# Altium integrated library TI Data Converters Analog to Digital Converter.IntLib: 2197 symbols (part 49 of 168)
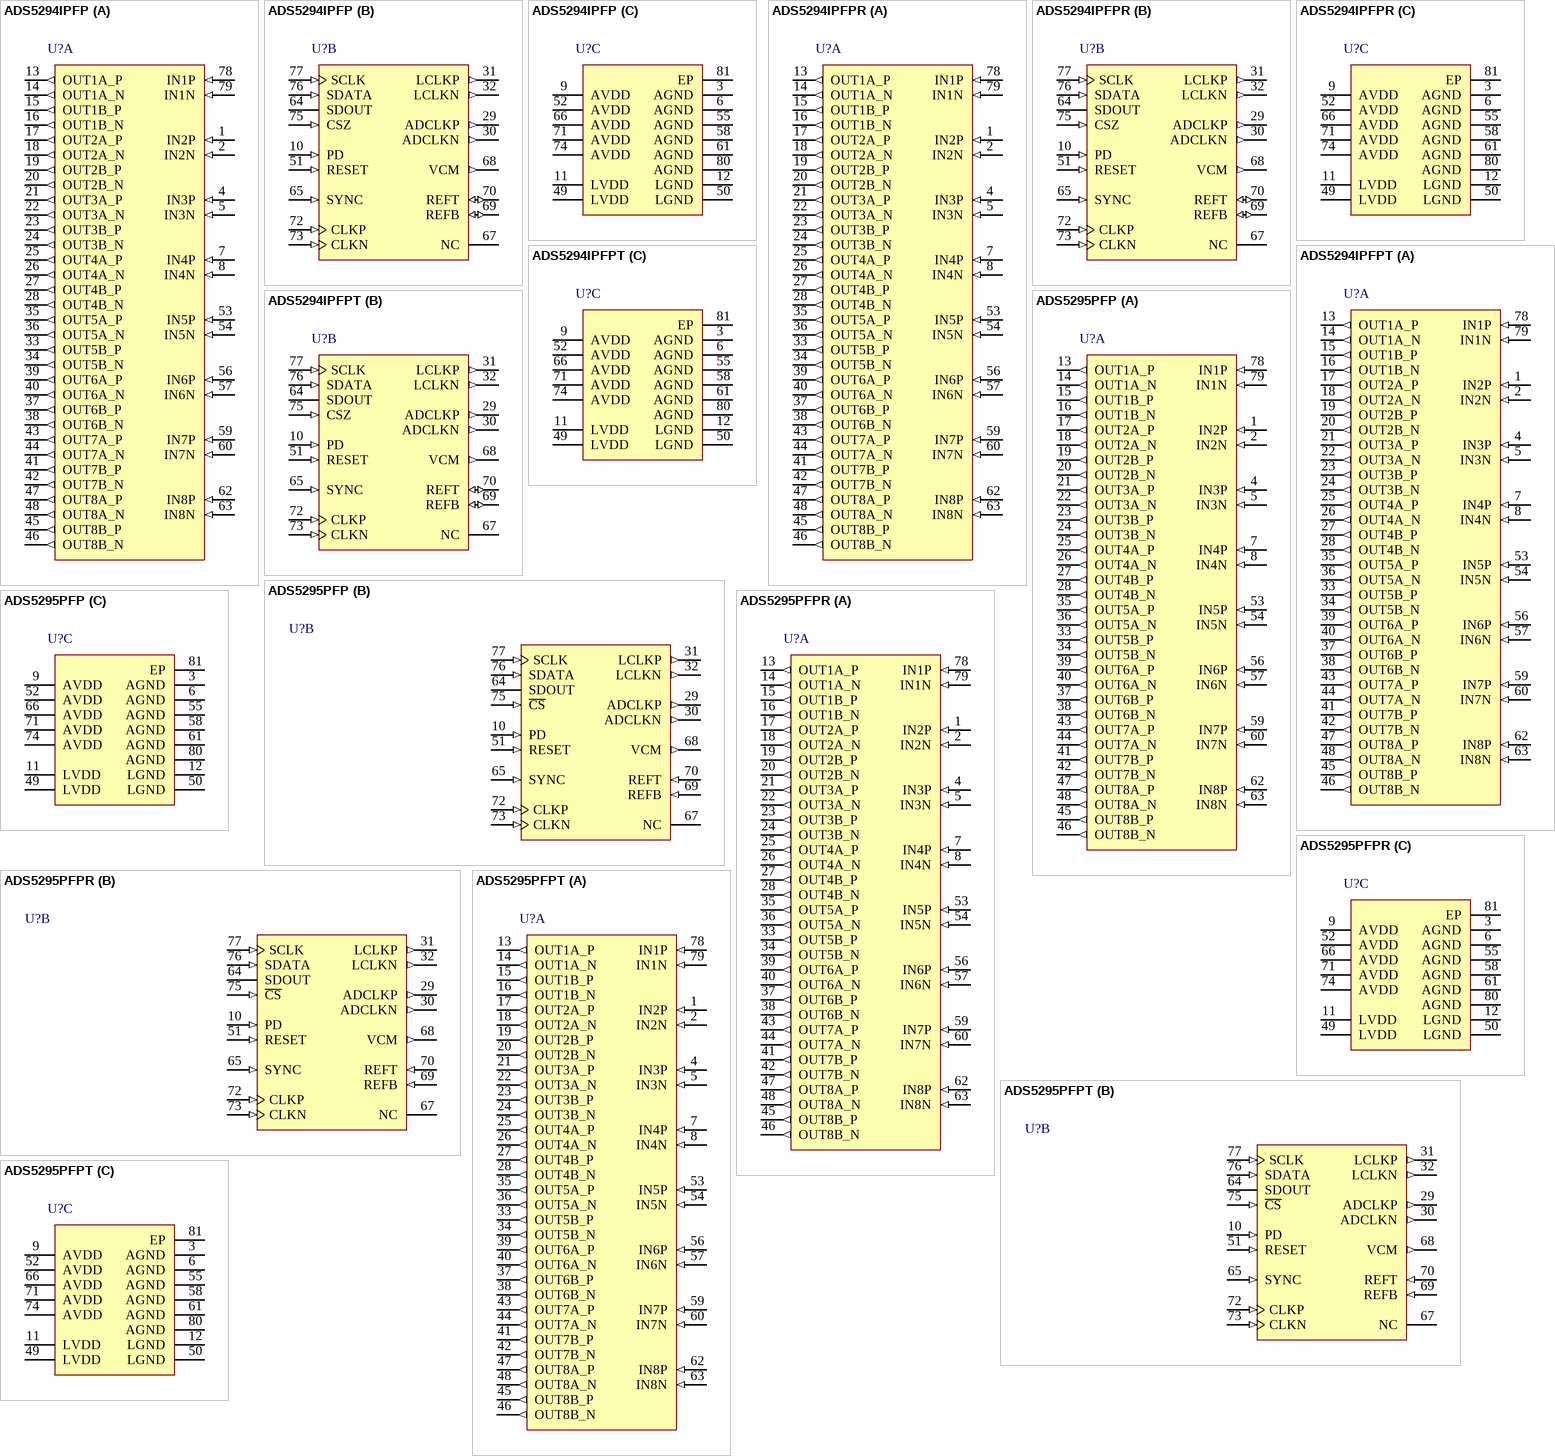
[diagram p174: symbols ADS5294IPFP to ADS5295PFPT]

## ADS5295PFPT
designator U?
Octal Channel 12-Bit, 100 MSPS High-SNR and Low-Power ADC, -40 to 85 degC, 80-pin QFP (PFP80), Green (RoHS & no Sb/Br); Manufacturer: Texas Instruments; PartNumber: ADS5295PFPT; # Input Channels: 8; Analog Voltage AV/DD(Max)(V): 1.9; Analog Voltage AV/DD(Min)(V): 1.7; Architecture: Pipeline; ENOB(Bits): 11.4; INL(Max)(+/-LSB): 1.1; Interface: Serial LVDS; Resolution(Bits): 12; Sample Rate(max)(SPS): 100M; SFDR(dB): 86; SINAD(dB): 70.4; SNR(dB): 70.6; SubFamily: High Speed ADC (>10MSPS); DatasheetVersion: SBAS595; PackageVersion: 4146925/C, 07/2011; PackageReference: PFP80-6825X6825TP; PackageDescription: 80-Pin PowerPAD(TM) Plastic Quad Flatpack, Body 12 x 12 mm, Pitch 0.5 mm; Supplier 1: Digi-Key; Supplier Part Number 1: 296-2822-5-ND; Supplier 2: Mouser; Supplier Part Number 2: 595-THS10064IDA; Digital Supply(Max)(V): 1.9; Digital Supply(Min)(V): 1.7; Eco-Plan: Green (RoHS & no Sb/Br); Mounting Technology: Surface Mount; Code_JEDEC: MS-026; ComponentLink1Description: Manufacturer URL; ComponentLink1URL: http://www.ti.com/; ComponentLink2Description: Datasheet; ComponentLink2URL: http://www.ti.com/lit/ds/symlink/ads5295.pdf; ComponentLink3Description: Package Specification; ComponentLink3URL: http://www.ti.com/litv/pdf/mpqf049b
footprint TI-PFP80-6825X6825TP_N (QFP, 80-Leads, Body 12x12mm, Pitch 0.5mm, Thermal Pad 7.5x7.5mm, IPC Medium Density)
footprint TI-PFP80-6825X6825TP_L (QFP, 80-Leads, Body 12x12mm, Pitch 0.5mm, Thermal Pad 7.5x7.5mm, IPC High Density)
footprint TI-PFP80-6825X6825TP_M (QFP, 80-Leads, Body 12x12mm, Pitch 0.5mm, Thermal Pad 7.5x7.5mm, IPC Low Density)
part A pins: 1 IN2P (in) "Differential analog input for channel 2, positive", 2 IN2N (in) "Differential analog input for channel 2, negative", 4 IN3P (in) "Differential analog input for channel 3, positive", 5 IN3N (in) "Differential analog input for channel 3, negative", 7 IN4P (in) "Differential analog input for channel 4, positive", 8 IN4N (in) "Differential analog input for channel 4, negative", 13 OUT1A_P (out) "Channel 1 differential LVDS positive data output, one-wire", 14 OUT1A_N (out) "Channel 1 differential LVDS negative data output, one-wire", 15 OUT1B_P (out) "Channel 1 differential LVDS positive data output, two-wire", 16 OUT1B_N (out) "Channel 1 differential LVDS negative data output, two-wire", 17 OUT2A_P (out) "Channel 2 differential LVDS positive data output, one-wire", 18 OUT2A_N (out) "Channel 2 differential LVDS negative data output, one-wire", 19 OUT2B_P (out) "Channel 2 differential LVDS positive data output, two-wire", 20 OUT2B_N (out) "Channel 2 differential LVDS negative data output, two-wire", 21 OUT3A_P (out) "Channel 3 differential LVDS positive data output, one-wire", 22 OUT3A_N (out) "Channel 3 differential LVDS negative data output, one-wire", 23 OUT3B_P (out) "Channel 3 differential LVDS positive data output, two-wire", 24 OUT3B_N (out) "Channel 3 differential LVDS negative data output, two-wire", 25 OUT4A_P (out) "Channel 4 differential LVDS positive data output, one-wire", 26 OUT4A_N (out) "Channel 4 differential LVDS negative data output, one-wire", 27 OUT4B_P (out) "Channel 4 differential LVDS positive data output, two-wire", 28 OUT4B_N (out) "Channel 4 differential LVDS negative data output, two-wire", 33 OUT5B_P (out) "Channel 5 differential LVDS positive data output, two-wire", 34 OUT5B_N (out) "Channel 5 differential LVDS negative data output, two-wire", 35 OUT5A_P (out) "Channel 5 differential LVDS positive data output, one-wire", 36 OUT5A_N (out) "Channel 5 differential LVDS negative data output, one-wire", 37 OUT6B_P (out) "Channel 6 differential LVDS positive data output, two-wire", 38 OUT6B_N (out) "Channel 6 differential LVDS negative data output, two-wire", 39 OUT6A_P (out) "Channel 6 differential LVDS positive data output, one-wire", 40 OUT6A_N (out) "Channel 6 differential LVDS negative data output, one-wire", 41 OUT7B_P (out) "Channel 7 differential LVDS positive data output, two-wire", 42 OUT7B_N (out) "Channel 7 differential LVDS negative data output, two-wire", 43 OUT7A_P (out) "Channel 7 differential LVDS positive data output, one-wire", 44 OUT7A_N (out) "Channel 7 differential LVDS negative data output, one-wire", 45 OUT8B_P (out) "Channel 8 differential LVDS positive data output, two-wire", 46 OUT8B_N (out) "Channel 8 differential LVDS negative data output, two-wire", 47 OUT8A_P (out) "Channel 8 differential LVDS positive data output, one-wire", 48 OUT8A_N (out) "Channel 8 differential LVDS negative data output, one-wire", 53 IN5P (in) "Differential analog input for channel 5, positive", 54 IN5N (in) "Differential analog input for channel 5, negative", 56 IN6P (in) "Differential analog input for channel 6, positive", 57 IN6N (in) "Differential analog input for channel 6, negative", 59 IN7P (in) "Differential analog input for channel 7, positive", 60 IN7N (in) "Differential analog input for channel 7, negative", 62 IN8P (in) "Differential analog input for channel 8, positive", 63 IN8N (in) "Differential analog input for channel 8, negative", 78 IN1P (in) "Differential analog input for channel 1, positive", 79 IN1N (in) "Differential analog input for channel 1, negative"
part B pins: 10 PD (in) "Power-down control input pin", 29 ADCLKP (out) "Differential LVDS frame clock (1x), positive", 30 ADCLKN (out) "Differential LVDS frame clock (1x), negative", 31 LCLKP (out) "LVDS differential bit clock output pins (6x), positive", 32 LCLKN (out) "LVDS differential bit clock output pins (6x), negative", 51 RESET (in) "Active high RESET input", 64 SDOUT (hiz) "Serial data output", 65 SYNC (in) "Synchronization input for reduced output data rate", 67 NC "Do not connect", 68 VCM (out) "Common-mode output pin, 0.95-V output", 69 REFB (in) "Negative reference input/output", 70 REFT (in) "Positive reference input/output", 72 CLKP (in) "Differential clock input, positive", 73 CLKN (in) "Differential clock input, negative For a single-ended clock, tie CLKN to 0 V", 75 ~{CS} (in) "Serial enable chip select; active low digital input", 76 SDATA (in) "Serial data input", 77 SCLK (in) "Serial clock input"
part C pins: 3 AGND (power) "Analog ground pin", 6 AGND (power) "Analog ground pin", 9 AVDD (power) "Analog supply pin, 1.8 V", 11 LVDD (power) "Digital and I/O power supply, 1.8 V", 12 LGND (power) "Digital ground pin", 49 LVDD (power) "Digital and I/O power supply, 1.8 V", 50 LGND (power) "Digital ground pin", 52 AVDD (power) "Analog supply pin, 1.8 V", 55 AGND (power) "Analog ground pin", 58 AGND (power) "Analog ground pin", 61 AGND (power) "Analog ground pin", 66 AVDD (power) "Analog supply pin, 1.8 V", 71 AVDD (power) "Analog supply pin, 1.8 V", 74 AVDD (power) "Analog supply pin, 1.8 V", 80 AGND (power) "Analog ground pin", 81 EP (power) "In addition to providing a path for heat dissipation, the pad is also electrically connected to the digital ground internally. Therefore, the exposed pad must be soldered to the ground plane for best thermal and electrical (See Datasheet)"

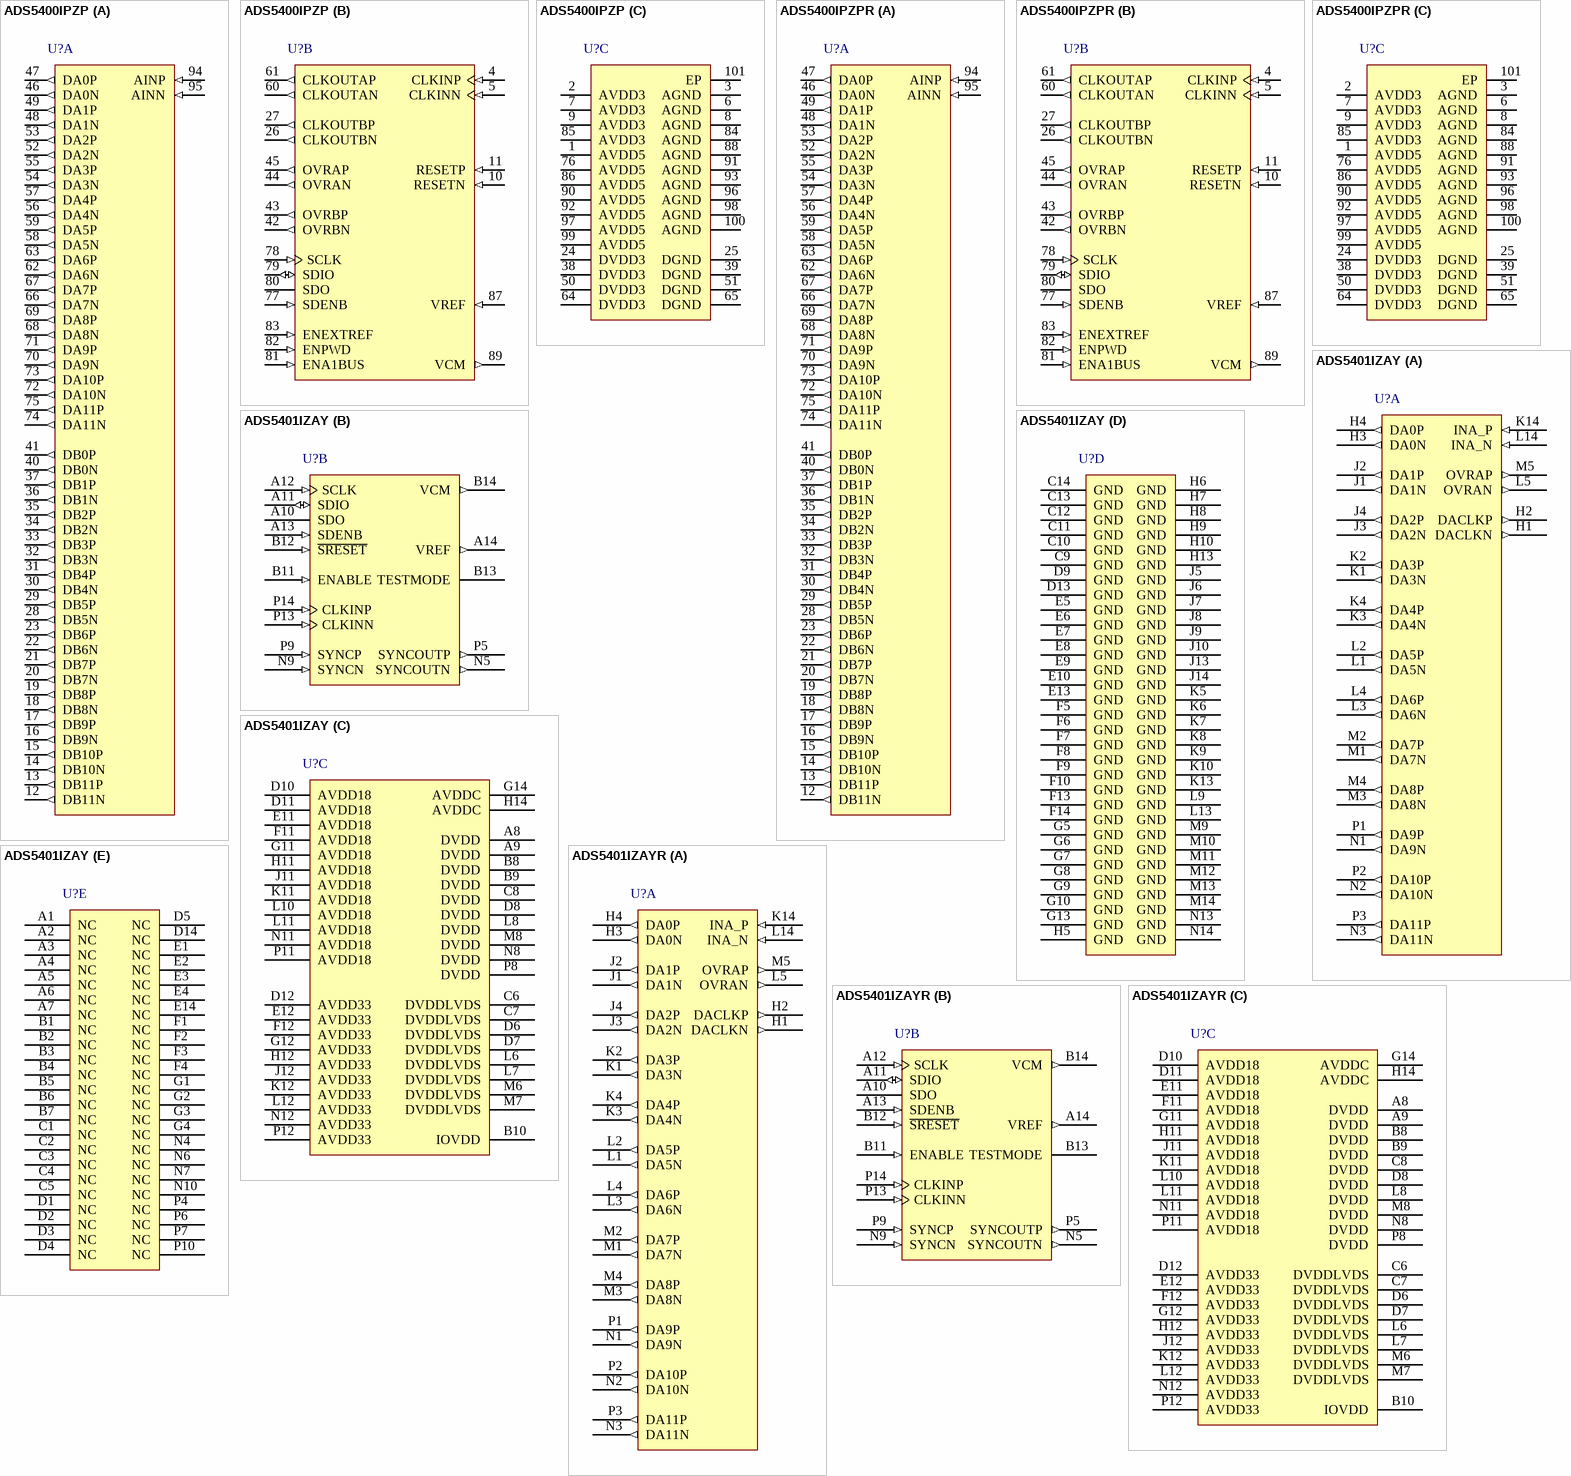
[diagram p45: symbols ADS5400IPZP to ADS5401IZAYR]

## ADS5400IPZP
designator U?
12-Bit, 1000 MSPS ADC with Analog Input Buffer, -40 to 85 degC, 100-pin QFP (PZP100), Green (RoHS & no Sb/Br); Manufacturer: Texas Instruments; PartNumber: ADS5400IPZP; # Input Channels: 1; Analog Voltage AV/DD(Max)(V): 3.465; Analog Voltage AV/DD(Min)(V): 3.135; Architecture: Pipeline; ENOB(Bits): 9.42; INL(Max)(+/-LSB): 4.5; Interface: Parallel LVDS, Serial SPI Interface; Resolution(Bits): 12; Sample Rate (max)(SPS): 1000M; SFDR(dB): 75; SINAD(dB): 58.5; SubFamily: High Speed ADC (>10MSPS); DatasheetVersion: SLAS611B; PackageVersion: 4146929/C, 09/2011; PackageReference: PZP100-5340X5340TP; PackageDescription: 100-Pin PowerPAD(TM) Plastic Quad Flatpack, Body 14 x 14 mm, Pitch 0.5 mm; Supplier 1: Digi-Key; Supplier Part Number 1: THS10064IDAG4-ND; Supplier 2: Mouser; Supplier Part Number 2: 595-THS10064IDAG4; Digital Supply(Max)(V): 3.465; Digital Supply(Min)(V): 3.135; Eco-Plan: Green (RoHS & no Sb/Br); SNR(dB): 58.5; Mounting Technology: Surface Mount; Code_JEDEC: MS-026; ComponentLink1Description: Manufacturer URL; ComponentLink1URL: http://www.ti.com/; ComponentLink2Description: Datasheet; ComponentLink2URL: http://www.ti.com/general/docs/lit/getliterature.tsp?genericPartNumber=ADS5400&fileType=pdf; ComponentLink3Description: Package Specification; ComponentLink3URL: http://www.ti.com/litv/pdf/mpqf053b
footprint TI-PZP100-5340X5340TP_N (QFP, 100-Leads, Body 14x14mm, Pitch 0.5mm, Thermal Pad 6 x 6 mm, IPC Medium Density)
footprint TI-PZP100-5340X5340TP_L (QFP, 100-Leads, Body 14x14mm, Pitch 0.5mm, Thermal Pad 6 x 6 mm, IPC High Density)
footprint TI-PZP100-5340X5340TP_M (QFP, 100-Leads, Body 14x14mm, Pitch 0.5mm, Thermal Pad 6 x 6 mm, IPC Low Density)
part A pins: 12 DB11N (out) "Bus B, LVDS digital output pair, most-significant bit (MSB)", 13 DB11P (out) "Bus B, LVDS digital output pair, most-significant bit (MSB)", 14 DB10N (out) "Bus B, LVDS digital output pairs (bits 1- 10)", 15 DB10P (out) "Bus B, LVDS digital output pairs (bits 1- 10)", 16 DB9N (out) "Bus B, LVDS digital output pairs (bits 1- 10)", 17 DB9P (out) "Bus B, LVDS digital output pairs (bits 1- 10)", 18 DB8N (out) "Bus B, LVDS digital output pairs (bits 1- 10)", 19 DB8P (out) "Bus B, LVDS digital output pairs (bits 1- 10)", 20 DB7N (out) "Bus B, LVDS digital output pairs (bits 1- 10)", 21 DB7P (out) "Bus B, LVDS digital output pairs (bits 1- 10)", 22 DB6N (out) "Bus B, LVDS digital output pairs (bits 1- 10)", 23 DB6P (out) "Bus B, LVDS digital output pairs (bits 1- 10)", 28 DB5N (out) "Bus B, LVDS digital output pairs (bits 1- 10)", 29 DB5P (out) "Bus B, LVDS digital output pairs (bits 1- 10)", 30 DB4N (out) "Bus B, LVDS digital output pairs (bits 1- 10)", 31 DB4P (out) "Bus B, LVDS digital output pairs (bits 1- 10)", 32 DB3N (out) "Bus B, LVDS digital output pairs (bits 1- 10)", 33 DB3P (out) "Bus B, LVDS digital output pairs (bits 1- 10)", 34 DB2N (out) "Bus B, LVDS digital output pairs (bits 1- 10)", 35 DB2P (out) "Bus B, LVDS digital output pairs (bits 1- 10)", 36 DB1N (out) "Bus B, LVDS digital output pairs (bits 1- 10)", 37 DB1P (out) "Bus B, LVDS digital output pairs (bits 1- 10)", 40 DB0N (out) "Bus B, LVDS digital output pair, least-significant bit (LSB) (P = positive output, N = negative output)", 41 DB0P (out) "Bus B, LVDS digital output pair, least-significant bit (LSB) (P = positive output, N = negative output)", 46 DA0N (out) "Bus A, LVDS digital output pair, least-significant bit (LSB) (P = positive output, N = negative output)", 47 DA0P (out) "Bus A, LVDS digital output pair, least-significant bit (LSB) (P = positive output, N = negative output)", 48 DA1N (out) "Bus A, LVDS digital output pairs (bits 1- 10)", 49 DA1P (out) "Bus A, LVDS digital output pairs (bits 1- 10)", 52 DA2N (out) "Bus A, LVDS digital output pairs (bits 1- 10)", 53 DA2P (out) "Bus A, LVDS digital output pairs (bits 1- 10)", 54 DA3N (out) "Bus A, LVDS digital output pairs (bits 1- 10)", 55 DA3P (out) "Bus A, LVDS digital output pairs (bits 1- 10)", 56 DA4N (out) "Bus A, LVDS digital output pairs (bits 1- 10)", 57 DA4P (out) "Bus A, LVDS digital output pairs (bits 1- 10)", 58 DA5N (out) "Bus A, LVDS digital output pairs (bits 1- 10)", 59 DA5P (out) "Bus A, LVDS digital output pairs (bits 1- 10)", 62 DA6N (out) "Bus A, LVDS digital output pairs (bits 1- 10)", 63 DA6P (out) "Bus A, LVDS digital output pairs (bits 1- 10)", 66 DA7N (out) "Bus A, LVDS digital output pairs (bits 1- 10)", 67 DA7P (out) "Bus A, LVDS digital output pairs (bits 1- 10)", 68 DA8N (out) "Bus A, LVDS digital output pairs (bits 1- 10)", 69 DA8P (out) "Bus A, LVDS digital output pairs (bits 1- 10)", 70 DA9N (out) "Bus A, LVDS digital output pairs (bits 1- 10)", 71 DA9P (out) "Bus A, LVDS digital output pairs (bits 1- 10)", 72 DA10N (out) "Bus A, LVDS digital output pairs (bits 1- 10)", 73 DA10P (out) "Bus A, LVDS digital output pairs (bits 1- 10)", 74 DA11N (out) "Bus A, LVDS digital output pair, most-significant bit (MSB)", 75 DA11P (out) "Bus A, LVDS digital output pair, most-significant bit (MSB)", 94 AINP (in) "Analog differential input signal (positive, negative). Includes 100-ohm differential load on-chip.", 95 AINN (in) "Analog differential input signal (positive, negative). Includes 100-ohm differential load on-chip."
part B pins: 4 CLKINP (in) "Differential input clock (positive, negative). Includes 160-ohm differential load on-chip.", 5 CLKINN (in) "Differential input clock (positive, negative). Includes 160-ohm differential load on-chip.", 10 RESETN (in) "Digital Reset Input, LVDS input pair. Inactive if logic low. When clocked in a high state, this is used for resetting the polarity of CLKOUT signal pair(s). If SYNC mode is enabled in register 0x05, this input also provides (See Datasheet)", 11 RESETP (in) "Digital Reset Input, LVDS input pair. Inactive if logic low. When clocked in a high state, this is used for resetting the polarity of CLKOUT signal pair(s). If SYNC mode is enabled in register 0x05, this input also provides (See Datasheet)", 26 CLKOUTBN (out) "Bus B, Clock Output (Data ready), LVDS output pair", 27 CLKOUTBP (out) "Bus B, Clock Output (Data ready), LVDS output pair", 42 OVRBN (out) "Bus B, Overrange indicator LVDS output. A logic high signals an analog input in excess of the full-scale range. Becomes SYNCOUTB when SYNC mode is enabled in register 0x05.", 43 OVRBP (out) "Bus B, Overrange indicator LVDS output. A logic high signals an analog input in excess of the full-scale range. Becomes SYNCOUTB when SYNC mode is enabled in register 0x05.", 44 OVRAN (out) "Bus A, Overrange indicator LVDS output. A logic high signals an analog input in excess of the full-scale range. Becomes SYNCOUTA when SYNC mode is enabled in register 0x05.", 45 OVRAP (out) "Bus A, Overrange indicator LVDS output. A logic high signals an analog input in excess of the full-scale range. Becomes SYNCOUTA when SYNC mode is enabled in register 0x05.", 60 CLKOUTAN (out) "Bus A, Clock Output (Data ready), LVDS output pair", 61 CLKOUTAP (out) "Bus A, Clock Output (Data ready), LVDS output pair", 77 SDENB (in) "Active low serial data enable, always an input. Use to enable the serial interface. Internal 100kohm pull-up resistor.", 78 SCLK (in) "Serial interface clock.", 79 SDIO (io) "Bi-directional serial interface data in 3-pin mode (default) for programming/reading internal registers. In 4-pin interface mode (reg 0x01), the SDIO pin is an input only.", 80 SDO (hiz) "Uni-directional serial interface data in 4-pin mode (reg 0x01) provides internal register settings. The SDO pin is in high-impedance state in 3-pin interface mode (default).", 81 ENA1BUS (in) "Enable single output bus mode (2-bus mode is default), active high. This pin is logic OR'd with addr 0x02h bit<0>.", 82 ENPWD (in) "Enable Powerdown, active high. Places the converter into power-saving sleep mode when high. This pin is logic OR'd with addr 0x05h bit<6>.", 83 ENEXTREF (in) "Enable External Reference Mode, active high. Device uses an external voltage reference when high. This pin is logic OR'd with addr 0x05h bit<2>.", 87 VREF (in) "Reference voltage input (2V nominal). A 0.1mF capacitor to AGND is recommended, but not required.", 89 VCM (out) "Analog input common mode voltage, Output (for DC-coupled applications, nominally 2.5V). A 0.1mF capacitor to AGND is recommended, but not required."
part C pins: 1 AVDD5 (power) "Analog power supply (5 V)", 2 AVDD3 (power) "Analog power supply (3.3 V)", 3 AGND (power) "Analog Ground", 6 AGND (power) "Analog Ground", 7 AVDD3 (power) "Analog power supply (3.3 V)", 8 AGND (power) "Analog Ground", 9 AVDD3 (power) "Analog power supply (3.3 V)", 24 DVDD3 (power) "Output driver power supply (3.3 V)", 25 DGND (power) "Digital Ground", 38 DVDD3 (power) "Output driver power supply (3.3 V)", 39 DGND (power) "Digital Ground", 50 DVDD3 (power) "Output driver power supply (3.3 V)", 51 DGND (power) "Digital Ground", 64 DVDD3 (power) "Output driver power supply (3.3 V)", 65 DGND (power) "Digital Ground", 76 AVDD5 (power) "Analog power supply (5 V)", 84 AGND (power) "Analog Ground", 85 AVDD3 (power) "Analog power supply (3.3 V)", 86 AVDD5 (power) "Analog power supply (5 V)", 88 AGND (power) "Analog Ground", 90 AVDD5 (power) "Analog power supply (5 V)", 91 AGND (power) "Analog Ground", 92 AVDD5 (power) "Analog power supply (5 V)", 93 AGND (power) "Analog Ground", 96 AGND (power) "Analog Ground", 97 AVDD5 (power) "Analog power supply (5 V)", 98 AGND (power) "Analog Ground", 99 AVDD5 (power) "Analog power supply (5 V)", 100 AGND (power) "Analog Ground", 101 EP (power) "Thermal Pad = AGND"

## ADS5400IPZPR
designator U?
12-Bit, 1000 MSPS ADC with Analog Input Buffer, -40 to 85 degC, 100-pin QFP (PZP100), Green (RoHS & no Sb/Br); Manufacturer: Texas Instruments; PartNumber: ADS5400IPZPR; # Input Channels: 1; Analog Voltage AV/DD(Max)(V): 3.465; Analog Voltage AV/DD(Min)(V): 3.135; Architecture: Pipeline; ENOB(Bits): 9.42; INL(Max)(+/-LSB): 4.5; Interface: Parallel LVDS, Serial SPI Interface; Resolution(Bits): 12; Sample Rate (max)(SPS): 1000M; SFDR(dB): 75; SINAD(dB): 58.5; SubFamily: High Speed ADC (>10MSPS); DatasheetVersion: SLAS611B; PackageVersion: 4146929/C, 09/2011; PackageReference: PZP100-5340X5340TP; PackageDescription: 100-Pin PowerPAD(TM) Plastic Quad Flatpack, Body 14 x 14 mm, Pitch 0.5 mm; Supplier 1: Digi-Key; Supplier Part Number 1: 296-2176-5-ND; Supplier 2: Newark; Supplier Part Number 2: 19C8969; Supplier 3: Mouser; Supplier Part Number 3: 595-THS1206CDA; Digital Supply(Max)(V): 3.465; Digital Supply(Min)(V): 3.135; Eco-Plan: Green (RoHS & no Sb/Br); SNR(dB): 58.5; Mounting Technology: Surface Mount; Code_JEDEC: MS-026; ComponentLink1Description: Manufacturer URL; ComponentLink1URL: http://www.ti.com/; ComponentLink2Description: Datasheet; ComponentLink2URL: http://www.ti.com/general/docs/lit/getliterature.tsp?genericPartNumber=ADS5400&fileType=pdf; ComponentLink3Description: Package Specification; ComponentLink3URL: http://www.ti.com/litv/pdf/mpqf053b
footprint TI-PZP100-5340X5340TP_N (QFP, 100-Leads, Body 14x14mm, Pitch 0.5mm, Thermal Pad 6 x 6 mm, IPC Medium Density)
footprint TI-PZP100-5340X5340TP_L (QFP, 100-Leads, Body 14x14mm, Pitch 0.5mm, Thermal Pad 6 x 6 mm, IPC High Density)
footprint TI-PZP100-5340X5340TP_M (QFP, 100-Leads, Body 14x14mm, Pitch 0.5mm, Thermal Pad 6 x 6 mm, IPC Low Density)
part A pins: 12 DB11N (out) "Bus B, LVDS digital output pair, most-significant bit (MSB)", 13 DB11P (out) "Bus B, LVDS digital output pair, most-significant bit (MSB)", 14 DB10N (out) "Bus B, LVDS digital output pairs (bits 1- 10)", 15 DB10P (out) "Bus B, LVDS digital output pairs (bits 1- 10)", 16 DB9N (out) "Bus B, LVDS digital output pairs (bits 1- 10)", 17 DB9P (out) "Bus B, LVDS digital output pairs (bits 1- 10)", 18 DB8N (out) "Bus B, LVDS digital output pairs (bits 1- 10)", 19 DB8P (out) "Bus B, LVDS digital output pairs (bits 1- 10)", 20 DB7N (out) "Bus B, LVDS digital output pairs (bits 1- 10)", 21 DB7P (out) "Bus B, LVDS digital output pairs (bits 1- 10)", 22 DB6N (out) "Bus B, LVDS digital output pairs (bits 1- 10)", 23 DB6P (out) "Bus B, LVDS digital output pairs (bits 1- 10)", 28 DB5N (out) "Bus B, LVDS digital output pairs (bits 1- 10)", 29 DB5P (out) "Bus B, LVDS digital output pairs (bits 1- 10)", 30 DB4N (out) "Bus B, LVDS digital output pairs (bits 1- 10)", 31 DB4P (out) "Bus B, LVDS digital output pairs (bits 1- 10)", 32 DB3N (out) "Bus B, LVDS digital output pairs (bits 1- 10)", 33 DB3P (out) "Bus B, LVDS digital output pairs (bits 1- 10)", 34 DB2N (out) "Bus B, LVDS digital output pairs (bits 1- 10)", 35 DB2P (out) "Bus B, LVDS digital output pairs (bits 1- 10)", 36 DB1N (out) "Bus B, LVDS digital output pairs (bits 1- 10)", 37 DB1P (out) "Bus B, LVDS digital output pairs (bits 1- 10)", 40 DB0N (out) "Bus B, LVDS digital output pair, least-significant bit (LSB) (P = positive output, N = negative output)", 41 DB0P (out) "Bus B, LVDS digital output pair, least-significant bit (LSB) (P = positive output, N = negative output)", 46 DA0N (out) "Bus A, LVDS digital output pair, least-significant bit (LSB) (P = positive output, N = negative output)", 47 DA0P (out) "Bus A, LVDS digital output pair, least-significant bit (LSB) (P = positive output, N = negative output)", 48 DA1N (out) "Bus A, LVDS digital output pairs (bits 1- 10)", 49 DA1P (out) "Bus A, LVDS digital output pairs (bits 1- 10)", 52 DA2N (out) "Bus A, LVDS digital output pairs (bits 1- 10)", 53 DA2P (out) "Bus A, LVDS digital output pairs (bits 1- 10)", 54 DA3N (out) "Bus A, LVDS digital output pairs (bits 1- 10)", 55 DA3P (out) "Bus A, LVDS digital output pairs (bits 1- 10)", 56 DA4N (out) "Bus A, LVDS digital output pairs (bits 1- 10)", 57 DA4P (out) "Bus A, LVDS digital output pairs (bits 1- 10)", 58 DA5N (out) "Bus A, LVDS digital output pairs (bits 1- 10)", 59 DA5P (out) "Bus A, LVDS digital output pairs (bits 1- 10)", 62 DA6N (out) "Bus A, LVDS digital output pairs (bits 1- 10)", 63 DA6P (out) "Bus A, LVDS digital output pairs (bits 1- 10)", 66 DA7N (out) "Bus A, LVDS digital output pairs (bits 1- 10)", 67 DA7P (out) "Bus A, LVDS digital output pairs (bits 1- 10)", 68 DA8N (out) "Bus A, LVDS digital output pairs (bits 1- 10)", 69 DA8P (out) "Bus A, LVDS digital output pairs (bits 1- 10)", 70 DA9N (out) "Bus A, LVDS digital output pairs (bits 1- 10)", 71 DA9P (out) "Bus A, LVDS digital output pairs (bits 1- 10)", 72 DA10N (out) "Bus A, LVDS digital output pairs (bits 1- 10)", 73 DA10P (out) "Bus A, LVDS digital output pairs (bits 1- 10)", 74 DA11N (out) "Bus A, LVDS digital output pair, most-significant bit (MSB)", 75 DA11P (out) "Bus A, LVDS digital output pair, most-significant bit (MSB)", 94 AINP (in) "Analog differential input signal (positive, negative). Includes 100-ohm differential load on-chip.", 95 AINN (in) "Analog differential input signal (positive, negative). Includes 100-ohm differential load on-chip."
part B pins: 4 CLKINP (in) "Differential input clock (positive, negative). Includes 160-ohm differential load on-chip.", 5 CLKINN (in) "Differential input clock (positive, negative). Includes 160-ohm differential load on-chip.", 10 RESETN (in) "Digital Reset Input, LVDS input pair. Inactive if logic low. When clocked in a high state, this is used for resetting the polarity of CLKOUT signal pair(s). If SYNC mode is enabled in register 0x05, this input also provides (See Datasheet)", 11 RESETP (in) "Digital Reset Input, LVDS input pair. Inactive if logic low. When clocked in a high state, this is used for resetting the polarity of CLKOUT signal pair(s). If SYNC mode is enabled in register 0x05, this input also provides (See Datasheet)", 26 CLKOUTBN (out) "Bus B, Clock Output (Data ready), LVDS output pair", 27 CLKOUTBP (out) "Bus B, Clock Output (Data ready), LVDS output pair", 42 OVRBN (out) "Bus B, Overrange indicator LVDS output. A logic high signals an analog input in excess of the full-scale range. Becomes SYNCOUTB when SYNC mode is enabled in register 0x05.", 43 OVRBP (out) "Bus B, Overrange indicator LVDS output. A logic high signals an analog input in excess of the full-scale range. Becomes SYNCOUTB when SYNC mode is enabled in register 0x05.", 44 OVRAN (out) "Bus A, Overrange indicator LVDS output. A logic high signals an analog input in excess of the full-scale range. Becomes SYNCOUTA when SYNC mode is enabled in register 0x05.", 45 OVRAP (out) "Bus A, Overrange indicator LVDS output. A logic high signals an analog input in excess of the full-scale range. Becomes SYNCOUTA when SYNC mode is enabled in register 0x05.", 60 CLKOUTAN (out) "Bus A, Clock Output (Data ready), LVDS output pair", 61 CLKOUTAP (out) "Bus A, Clock Output (Data ready), LVDS output pair", 77 SDENB (in) "Active low serial data enable, always an input. Use to enable the serial interface. Internal 100kohm pull-up resistor.", 78 SCLK (in) "Serial interface clock.", 79 SDIO (io) "Bi-directional serial interface data in 3-pin mode (default) for programming/reading internal registers. In 4-pin interface mode (reg 0x01), the SDIO pin is an input only.", 80 SDO (hiz) "Uni-directional serial interface data in 4-pin mode (reg 0x01) provides internal register settings. The SDO pin is in high-impedance state in 3-pin interface mode (default).", 81 ENA1BUS (in) "Enable single output bus mode (2-bus mode is default), active high. This pin is logic OR'd with addr 0x02h bit<0>.", 82 ENPWD (in) "Enable Powerdown, active high. Places the converter into power-saving sleep mode when high. This pin is logic OR'd with addr 0x05h bit<6>.", 83 ENEXTREF (in) "Enable External Reference Mode, active high. Device uses an external voltage reference when high. This pin is logic OR'd with addr 0x05h bit<2>.", 87 VREF (in) "Reference voltage input (2V nominal). A 0.1mF capacitor to AGND is recommended, but not required.", 89 VCM (out) "Analog input common mode voltage, Output (for DC-coupled applications, nominally 2.5V). A 0.1mF capacitor to AGND is recommended, but not required."
part C pins: 1 AVDD5 (power) "Analog power supply (5 V)", 2 AVDD3 (power) "Analog power supply (3.3 V)", 3 AGND (power) "Analog Ground", 6 AGND (power) "Analog Ground", 7 AVDD3 (power) "Analog power supply (3.3 V)", 8 AGND (power) "Analog Ground", 9 AVDD3 (power) "Analog power supply (3.3 V)", 24 DVDD3 (power) "Output driver power supply (3.3 V)", 25 DGND (power) "Digital Ground", 38 DVDD3 (power) "Output driver power supply (3.3 V)", 39 DGND (power) "Digital Ground", 50 DVDD3 (power) "Output driver power supply (3.3 V)", 51 DGND (power) "Digital Ground", 64 DVDD3 (power) "Output driver power supply (3.3 V)", 65 DGND (power) "Digital Ground", 76 AVDD5 (power) "Analog power supply (5 V)", 84 AGND (power) "Analog Ground", 85 AVDD3 (power) "Analog power supply (3.3 V)", 86 AVDD5 (power) "Analog power supply (5 V)", 88 AGND (power) "Analog Ground", 90 AVDD5 (power) "Analog power supply (5 V)", 91 AGND (power) "Analog Ground", 92 AVDD5 (power) "Analog power supply (5 V)", 93 AGND (power) "Analog Ground", 96 AGND (power) "Analog Ground", 97 AVDD5 (power) "Analog power supply (5 V)", 98 AGND (power) "Analog Ground", 99 AVDD5 (power) "Analog power supply (5 V)", 100 AGND (power) "Analog Ground", 101 EP (power) "Thermal Pad = AGND"

## ADS5401IZAY
designator U?
Single 12-Bit 800 MSPS ADC, -40 to 85 degC, 196-pin BGA (ZAY196), Green (RoHS & no Sb/Br); Manufacturer: Texas Instruments; PartNumber: ADS5401IZAY; # Input Channels: 1; Analog Voltage AV/DD(Max)(V): 3.45; Analog Voltage AV/DD(Min)(V): 3.15; Architecture: Pipeline; Digital Supply(Max)(V): 1.9; Digital Supply(Min)(V): 1.7; ENOB(Bits): 9.8; INL(Max)(+/-LSB): 5; Interface: DDR LVDS; Resolution(Bits): 12; Sample Rate(max)(SPS): 800M; SFDR(dB): 78; SINAD(dB): 61; SNR(dB): 61.3; SubFamily: High Speed ADC (>10MSPS); DatasheetVersion: SLAS946; PackageVersion: 4208324-4/C, 09/2010; PackageReference: ZAY196; PackageDescription: 196-Pin Plastic Ball Grid Array, Body 12 x 12 mm, Pitch 0.8 mm; Supplier 1: Digi-Key; Supplier Part Number 1: THS1206CDAG4-ND; Supplier 2: Newark; Supplier Part Number 2: 43K9709; Supplier 3: Mouser; Supplier Part Number 3: 595-THS1206CDAG4; Eco-Plan: Green (RoHS & no Sb/Br); Mounting Technology: Surface Mount; ComponentLink1Description: Manufacturer URL; ComponentLink1URL: http://www.ti.com/; ComponentLink2Description: Datasheet; ComponentLink2URL: http://www.ti.com/lit/ds/symlink/ads5401.pdf; ComponentLink3Description: Package Specification; ComponentLink3URL: http://www.ti.com/litv/pdf/mpbga11
footprint TI-ZAY196 (BGA, 196-Balls, Body 12x12mm, Pitch 0.8mm)
part A pins: H1 DACLKN (out) "DDR differential output data clock for Bus A. Register programmable to provide either rising or falling edge to center of stable data nominal timing.", H2 DACLKP (out) "DDR differential output data clock for Bus A. Register programmable to provide either rising or falling edge to center of stable data nominal timing.", H3 DA0N (out) "ADC A Data Bits 11 (MSB) to 0 (LSB) in DDR output mode. Standard LVDS output.", H4 DA0P (out) "ADC A Data Bits 11 (MSB) to 0 (LSB) in DDR output mode. Standard LVDS output.", J1 DA1N (out) "ADC A Data Bits 11 (MSB) to 0 (LSB) in DDR output mode. Standard LVDS output.", J2 DA1P (out) "ADC A Data Bits 11 (MSB) to 0 (LSB) in DDR output mode. Standard LVDS output.", J3 DA2N (out) "ADC A Data Bits 11 (MSB) to 0 (LSB) in DDR output mode. Standard LVDS output.", J4 DA2P (out) "ADC A Data Bits 11 (MSB) to 0 (LSB) in DDR output mode. Standard LVDS output.", K1 DA3N (out) "ADC A Data Bits 11 (MSB) to 0 (LSB) in DDR output mode. Standard LVDS output.", K2 DA3P (out) "ADC A Data Bits 11 (MSB) to 0 (LSB) in DDR output mode. Standard LVDS output.", K3 DA4N (out) "ADC A Data Bits 11 (MSB) to 0 (LSB) in DDR output mode. Standard LVDS output.", K4 DA4P (out) "ADC A Data Bits 11 (MSB) to 0 (LSB) in DDR output mode. Standard LVDS output.", K14 INA_P (in) "Analog ADC A differential input signal.", L1 DA5N (out) "ADC A Data Bits 11 (MSB) to 0 (LSB) in DDR output mode. Standard LVDS output.", L2 DA5P (out) "ADC A Data Bits 11 (MSB) to 0 (LSB) in DDR output mode. Standard LVDS output.", L3 DA6N (out) "ADC A Data Bits 11 (MSB) to 0 (LSB) in DDR output mode. Standard LVDS output.", L4 DA6P (out) "ADC A Data Bits 11 (MSB) to 0 (LSB) in DDR output mode. Standard LVDS output.", L5 OVRAN (out) "Bus A, Overrange indicator, LVDS output. A logic high signals an analog input in excess of the full-scale range. Optional SYNC output.", L14 INA_N (in) "Analog ADC A differential input signal.", M1 DA7N (out) "ADC A Data Bits 11 (MSB) to 0 (LSB) in DDR output mode. Standard LVDS output.", M2 DA7P (out) "ADC A Data Bits 11 (MSB) to 0 (LSB) in DDR output mode. Standard LVDS output.", M3 DA8N (out) "ADC A Data Bits 11 (MSB) to 0 (LSB) in DDR output mode. Standard LVDS output.", M4 DA8P (out) "ADC A Data Bits 11 (MSB) to 0 (LSB) in DDR output mode. Standard LVDS output.", M5 OVRAP (out) "Bus A, Overrange indicator, LVDS output. A logic high signals an analog input in excess of the full-scale range. Optional SYNC output.", N1 DA9N (out) "ADC A Data Bits 11 (MSB) to 0 (LSB) in DDR output mode. Standard LVDS output.", N2 DA10N (out) "ADC A Data Bits 11 (MSB) to 0 (LSB) in DDR output mode. Standard LVDS output.", N3 DA11N (out) "ADC A Data Bits 11 (MSB) to 0 (LSB) in DDR output mode. Standard LVDS output.", P1 DA9P (out) "ADC A Data Bits 11 (MSB) to 0 (LSB) in DDR output mode. Standard LVDS output.", P2 DA10P (out) "ADC A Data Bits 11 (MSB) to 0 (LSB) in DDR output mode. Standard LVDS output.", P3 DA11P (out) "ADC A Data Bits 11 (MSB) to 0 (LSB) in DDR output mode. Standard LVDS output."
part B pins: A10 SDO (hiz) "Uni-directional serial interface data in 4 pin mode (register x00, D16). The SDO pin is tri- stated in 3-pin interface mode (default). Internal 50kohm pull-down resistor.", A11 SDIO (io) "Bi-directional serial data in 3 pin mode (default). In 4-pin interface mode (register x00, D16), the SDIO pin is an input only. Internal 50kohm pull-down.", A12 SCLK (in) "Serial interface clock. Internal 50kohm pull-down resistor.", A13 SDENB (in) "Serial interface enable. Internal 50kohm pull-down resistor.", A14 VREF (out) "Reference voltage output (2V nominal). A 0.1uF capacitor to AGND is recommended, but not required.", B11 ENABLE (in) "Chip enable - active high. Power down function can be controlled through SPI register assignment. Internal 50kohm pull up resistor to IOVDD.", B12 ~{SRESET} (in) "Serial interface reset input. Active low. Initialized internal registers during high to low transition. Asynchronous. Internal 50kohm pull up resistor to IOVDD.", B13 TESTMODE "Factory internal test, do not connect", B14 VCM (out) "Output of the analog input common mode (nominally 1.9V). A 0.1uF capacitor to AGND is recommended.", N5 SYNCOUTN (out) "Synchronization output signal for synchronizing multiple ADCs. Can be disabled via SPI.", N9 SYNCN (in) "Synchronization input. Inactive if logic low. When clocked in a high state initially, this is used for resetting internal clocks and digital logic and starting the SYNCOUT signal. Internal 100ohm termination.", P5 SYNCOUTP (out) "Synchronization output signal for synchronizing multiple ADCs. Can be disabled via SPI.", P9 SYNCP (in) "Synchronization input. Inactive if logic low. When clocked in a high state initially, this is used for resetting internal clocks and digital logic and starting the SYNCOUT signal. Internal 100ohm termination.", P13 CLKINN (in) "Differential input clock", P14 CLKINP (in) "Differential input clock"
part C pins: A8 DVDD (power) "1.8V supply for digital block", A9 DVDD (power) "1.8V supply for digital block", B8 DVDD (power) "1.8V supply for digital block", B9 DVDD (power) "1.8V supply for digital block", B10 IOVDD (power) "1.8V for digital I/Os", C6 DVDDLVDS (power) "1.8V supply for LVDS outputs", C7 DVDDLVDS (power) "1.8V supply for LVDS outputs", C8 DVDD (power) "1.8V supply for digital block", D6 DVDDLVDS (power) "1.8V supply for LVDS outputs", D7 DVDDLVDS (power) "1.8V supply for LVDS outputs", D8 DVDD (power) "1.8V supply for digital block", D10 AVDD18 (power) "1.8V analog supply", D11 AVDD18 (power) "1.8V analog supply", D12 AVDD33 (power) "3.3V analog supply", E11 AVDD18 (power) "1.8V analog supply", E12 AVDD33 (power) "3.3V analog supply", F11 AVDD18 (power) "1.8V analog supply", F12 AVDD33 (power) "3.3V analog supply", G11 AVDD18 (power) "1.8V analog supply", G12 AVDD33 (power) "3.3V analog supply", G14 AVDDC (power) "1.8V supply for clock input", H11 AVDD18 (power) "1.8V analog supply", H12 AVDD33 (power) "3.3V analog supply", H14 AVDDC (power) "1.8V supply for clock input", J11 AVDD18 (power) "1.8V analog supply", J12 AVDD33 (power) "3.3V analog supply", K11 AVDD18 (power) "1.8V analog supply", K12 AVDD33 (power) "3.3V analog supply", L6 DVDDLVDS (power) "1.8V supply for LVDS outputs", L7 DVDDLVDS (power) "1.8V supply for LVDS outputs", L8 DVDD (power) "1.8V supply for digital block", L10 AVDD18 (power) "1.8V analog supply", L11 AVDD18 (power) "1.8V analog supply", L12 AVDD33 (power) "3.3V analog supply", M6 DVDDLVDS (power) "1.8V supply for LVDS outputs", M7 DVDDLVDS (power) "1.8V supply for LVDS outputs", M8 DVDD (power) "1.8V supply for digital block", N8 DVDD (power) "1.8V supply for digital block", N11 AVDD18 (power) "1.8V analog supply", N12 AVDD33 (power) "3.3V analog supply", P8 DVDD (power) "1.8V supply for digital block", P11 AVDD18 (power) "1.8V analog supply", P12 AVDD33 (power) "3.3V analog supply"
part D pins: C9 GND (power) "Ground", C10 GND (power) "Ground", C11 GND (power) "Ground", C12 GND (power) "Ground", C13 GND (power) "Ground", C14 GND (power) "Ground", D9 GND (power) "Ground", D13 GND (power) "Ground", E5 GND (power) "Ground", E6 GND (power) "Ground", E7 GND (power) "Ground", E8 GND (power) "Ground", E9 GND (power) "Ground", E10 GND (power) "Ground", E13 GND (power) "Ground", F5 GND (power) "Ground", F6 GND (power) "Ground", F7 GND (power) "Ground", F8 GND (power) "Ground", F9 GND (power) "Ground", F10 GND (power) "Ground", F13 GND (power) "Ground", F14 GND (power) "Ground", G5 GND (power) "Ground", G6 GND (power) "Ground", G7 GND (power) "Ground", G8 GND (power) "Ground", G9 GND (power) "Ground", G10 GND (power) "Ground", G13 GND (power) "Ground", H5 GND (power) "Ground", H6 GND (power) "Ground", H7 GND (power) "Ground", H8 GND (power) "Ground", H9 GND (power) "Ground", H10 GND (power) "Ground", H13 GND (power) "Ground", J5 GND (power) "Ground", J6 GND (power) "Ground", J7 GND (power) "Ground", J8 GND (power) "Ground", J9 GND (power) "Ground", J10 GND (power) "Ground", J13 GND (power) "Ground", J14 GND (power) "Ground", K5 GND (power) "Ground", K6 GND (power) "Ground", K7 GND (power) "Ground", K8 GND (power) "Ground", K9 GND (power) "Ground", K10 GND (power) "Ground", K13 GND (power) "Ground", L9 GND (power) "Ground", L13 GND (power) "Ground", M9 GND (power) "Ground", M10 GND (power) "Ground", M11 GND (power) "Ground", M12 GND (power) "Ground", M13 GND (power) "Ground", M14 GND (power) "Ground", N13 GND (power) "Ground", N14 GND (power) "Ground"
part E pins: A1 NC "Don’t connect to pin", A2 NC "Don’t connect to pin", A3 NC "Don’t connect to pin", A4 NC "Don’t connect to pin", A5 NC "Don’t connect to pin", A6 NC "Don’t connect to pin", A7 NC "Don’t connect to pin", B1 NC "Don’t connect to pin", B2 NC "Don’t connect to pin", B3 NC "Don’t connect to pin", B4 NC "Don’t connect to pin", B5 NC "Don’t connect to pin", B6 NC "Don’t connect to pin", B7 NC "Don’t connect to pin", C1 NC "Don’t connect to pin", C2 NC "Don’t connect to pin", C3 NC "Don’t connect to pin", C4 NC "Don’t connect to pin", C5 NC "Don’t connect to pin", D1 NC "Don’t connect to pin", D2 NC "Don’t connect to pin", D3 NC "Don’t connect to pin", D4 NC "Don’t connect to pin", D5 NC "Don’t connect to pin", D14 NC "Don’t connect to pin", E1 NC "Don’t connect to pin", E2 NC "Don’t connect to pin", E3 NC "Don’t connect to pin", E4 NC "Don’t connect to pin", E14 NC "Don’t connect to pin", F1 NC "Don’t connect to pin", F2 NC "Don’t connect to pin", F3 NC "Don’t connect to pin", F4 NC "Don’t connect to pin", G1 NC "Don’t connect to pin", G2 NC "Don’t connect to pin", G3 NC "Don’t connect to pin", G4 NC "Don’t connect to pin", N4 NC "Don’t connect to pin", N6 NC "Don’t connect to pin", N7 NC "Don’t connect to pin", N10 NC "Don’t connect to pin", P4 NC "Don’t connect to pin", P6 NC "Don’t connect to pin", P7 NC "Don’t connect to pin", P10 NC "Don’t connect to pin"

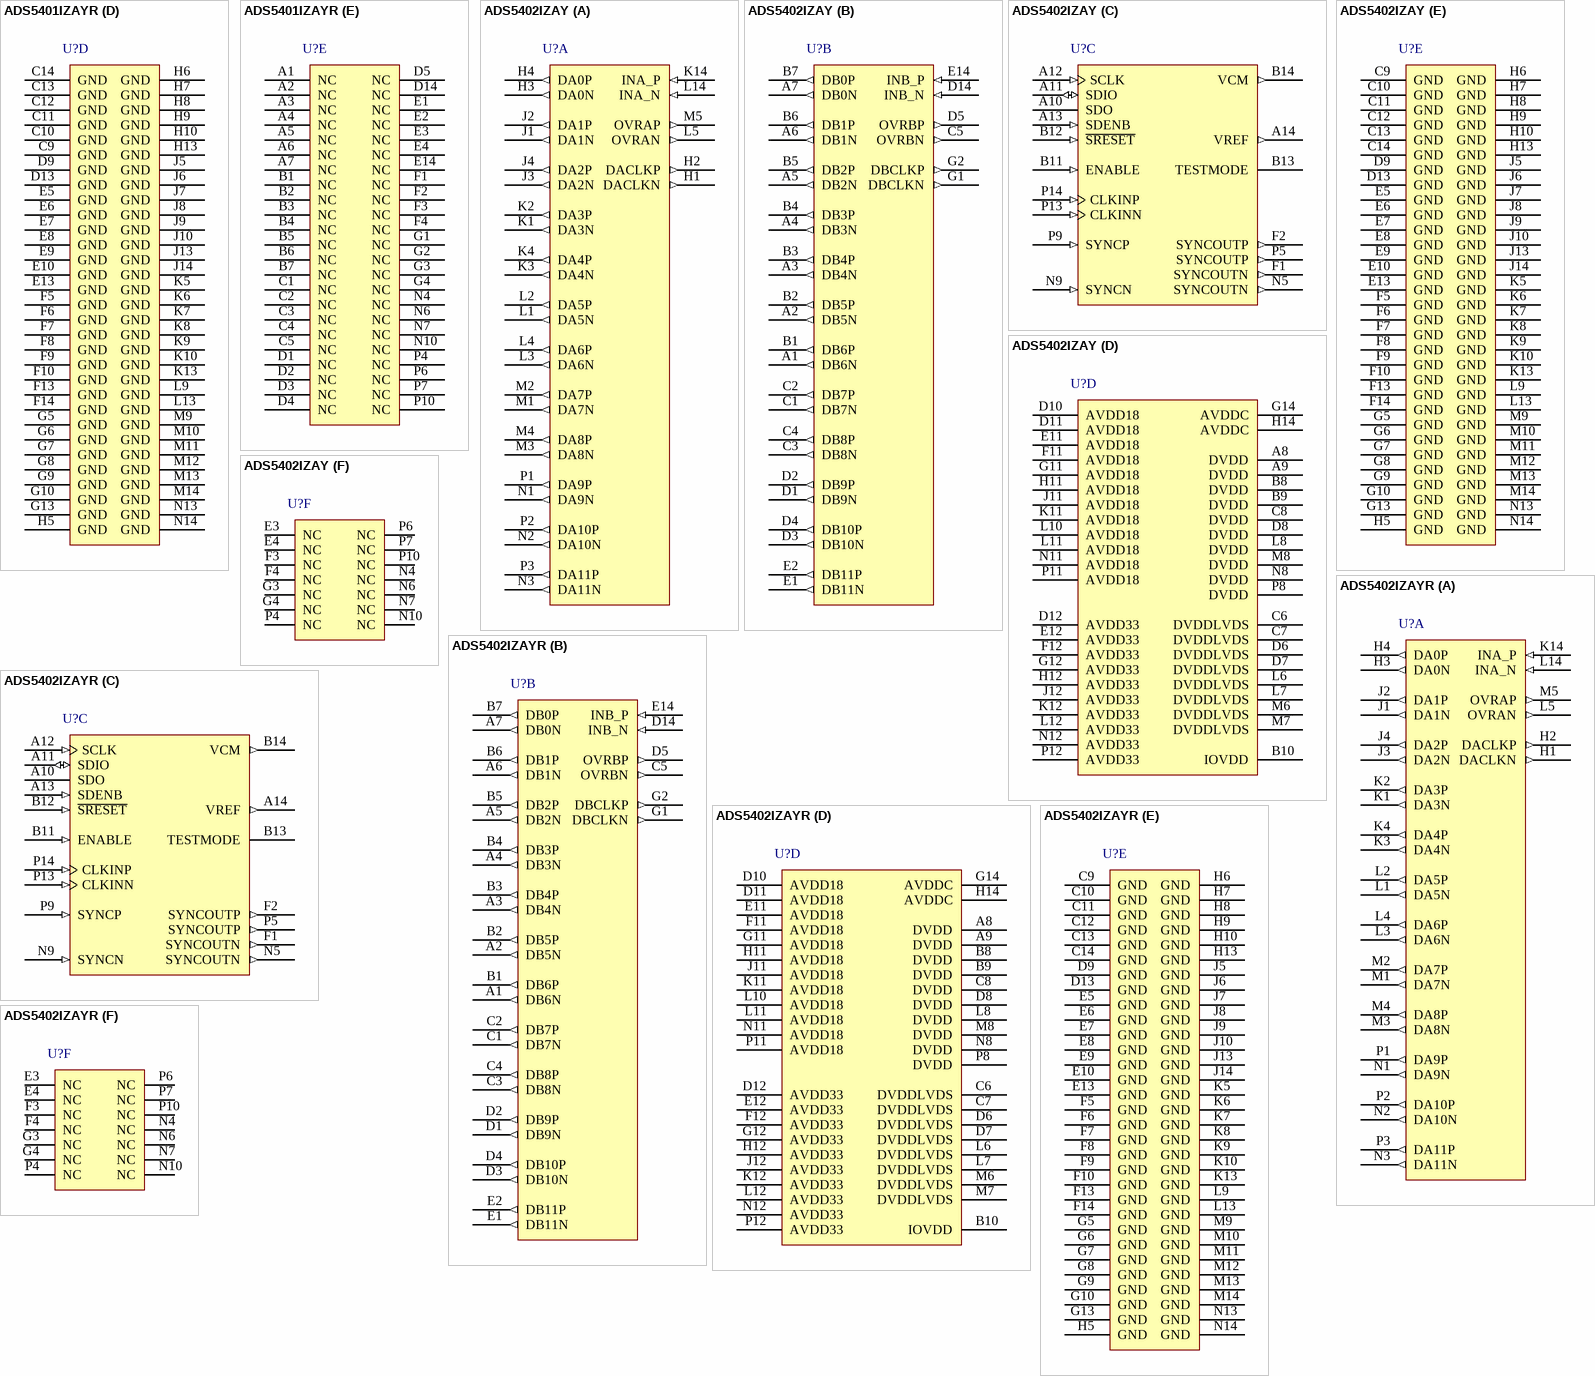
[diagram p46: symbols ADS5401IZAYR to ADS5402IZAYR]

## ADS5401IZAYR
designator U?
Single 12-Bit 800 MSPS ADC, -40 to 85 degC, 196-pin BGA (ZAY196), Green (RoHS & no Sb/Br); Manufacturer: Texas Instruments; PartNumber: ADS5401IZAYR; # Input Channels: 1; Analog Voltage AV/DD(Max)(V): 3.45; Analog Voltage AV/DD(Min)(V): 3.15; Architecture: Pipeline; Digital Supply(Max)(V): 1.9; Digital Supply(Min)(V): 1.7; ENOB(Bits): 9.8; INL(Max)(+/-LSB): 5; Interface: DDR LVDS; Resolution(Bits): 12; Sample Rate(max)(SPS): 800M; SFDR(dB): 78; SINAD(dB): 61; SNR(dB): 61.3; SubFamily: High Speed ADC (>10MSPS); DatasheetVersion: SLAS946; PackageVersion: 4208324-4/C, 09/2010; PackageReference: ZAY196; PackageDescription: 196-Pin Plastic Ball Grid Array, Body 12 x 12 mm, Pitch 0.8 mm; Supplier 1: Digi-Key; Supplier Part Number 1: THS1206CDAR-ND; Supplier 2: Mouser; Supplier Part Number 2: 595-THS1206CDAR; Eco-Plan: Green (RoHS & no Sb/Br); Mounting Technology: Surface Mount; ComponentLink1Description: Manufacturer URL; ComponentLink1URL: http://www.ti.com/; ComponentLink2Description: Datasheet; ComponentLink2URL: http://www.ti.com/lit/ds/symlink/ads5401.pdf; ComponentLink3Description: Package Specification; ComponentLink3URL: http://www.ti.com/litv/pdf/mpbga11
footprint TI-ZAY196 (BGA, 196-Balls, Body 12x12mm, Pitch 0.8mm)
part A pins: H1 DACLKN (out) "DDR differential output data clock for Bus A. Register programmable to provide either rising or falling edge to center of stable data nominal timing.", H2 DACLKP (out) "DDR differential output data clock for Bus A. Register programmable to provide either rising or falling edge to center of stable data nominal timing.", H3 DA0N (out) "ADC A Data Bits 11 (MSB) to 0 (LSB) in DDR output mode. Standard LVDS output.", H4 DA0P (out) "ADC A Data Bits 11 (MSB) to 0 (LSB) in DDR output mode. Standard LVDS output.", J1 DA1N (out) "ADC A Data Bits 11 (MSB) to 0 (LSB) in DDR output mode. Standard LVDS output.", J2 DA1P (out) "ADC A Data Bits 11 (MSB) to 0 (LSB) in DDR output mode. Standard LVDS output.", J3 DA2N (out) "ADC A Data Bits 11 (MSB) to 0 (LSB) in DDR output mode. Standard LVDS output.", J4 DA2P (out) "ADC A Data Bits 11 (MSB) to 0 (LSB) in DDR output mode. Standard LVDS output.", K1 DA3N (out) "ADC A Data Bits 11 (MSB) to 0 (LSB) in DDR output mode. Standard LVDS output.", K2 DA3P (out) "ADC A Data Bits 11 (MSB) to 0 (LSB) in DDR output mode. Standard LVDS output.", K3 DA4N (out) "ADC A Data Bits 11 (MSB) to 0 (LSB) in DDR output mode. Standard LVDS output.", K4 DA4P (out) "ADC A Data Bits 11 (MSB) to 0 (LSB) in DDR output mode. Standard LVDS output.", K14 INA_P (in) "Analog ADC A differential input signal.", L1 DA5N (out) "ADC A Data Bits 11 (MSB) to 0 (LSB) in DDR output mode. Standard LVDS output.", L2 DA5P (out) "ADC A Data Bits 11 (MSB) to 0 (LSB) in DDR output mode. Standard LVDS output.", L3 DA6N (out) "ADC A Data Bits 11 (MSB) to 0 (LSB) in DDR output mode. Standard LVDS output.", L4 DA6P (out) "ADC A Data Bits 11 (MSB) to 0 (LSB) in DDR output mode. Standard LVDS output.", L5 OVRAN (out) "Bus A, Overrange indicator, LVDS output. A logic high signals an analog input in excess of the full-scale range. Optional SYNC output.", L14 INA_N (in) "Analog ADC A differential input signal.", M1 DA7N (out) "ADC A Data Bits 11 (MSB) to 0 (LSB) in DDR output mode. Standard LVDS output.", M2 DA7P (out) "ADC A Data Bits 11 (MSB) to 0 (LSB) in DDR output mode. Standard LVDS output.", M3 DA8N (out) "ADC A Data Bits 11 (MSB) to 0 (LSB) in DDR output mode. Standard LVDS output.", M4 DA8P (out) "ADC A Data Bits 11 (MSB) to 0 (LSB) in DDR output mode. Standard LVDS output.", M5 OVRAP (out) "Bus A, Overrange indicator, LVDS output. A logic high signals an analog input in excess of the full-scale range. Optional SYNC output.", N1 DA9N (out) "ADC A Data Bits 11 (MSB) to 0 (LSB) in DDR output mode. Standard LVDS output.", N2 DA10N (out) "ADC A Data Bits 11 (MSB) to 0 (LSB) in DDR output mode. Standard LVDS output.", N3 DA11N (out) "ADC A Data Bits 11 (MSB) to 0 (LSB) in DDR output mode. Standard LVDS output.", P1 DA9P (out) "ADC A Data Bits 11 (MSB) to 0 (LSB) in DDR output mode. Standard LVDS output.", P2 DA10P (out) "ADC A Data Bits 11 (MSB) to 0 (LSB) in DDR output mode. Standard LVDS output.", P3 DA11P (out) "ADC A Data Bits 11 (MSB) to 0 (LSB) in DDR output mode. Standard LVDS output."
part B pins: A10 SDO (hiz) "Uni-directional serial interface data in 4 pin mode (register x00, D16). The SDO pin is tri- stated in 3-pin interface mode (default). Internal 50kohm pull-down resistor.", A11 SDIO (io) "Bi-directional serial data in 3 pin mode (default). In 4-pin interface mode (register x00, D16), the SDIO pin is an input only. Internal 50kohm pull-down.", A12 SCLK (in) "Serial interface clock. Internal 50kohm pull-down resistor.", A13 SDENB (in) "Serial interface enable. Internal 50kohm pull-down resistor.", A14 VREF (out) "Reference voltage output (2V nominal). A 0.1uF capacitor to AGND is recommended, but not required.", B11 ENABLE (in) "Chip enable - active high. Power down function can be controlled through SPI register assignment. Internal 50kohm pull up resistor to IOVDD.", B12 ~{SRESET} (in) "Serial interface reset input. Active low. Initialized internal registers during high to low transition. Asynchronous. Internal 50kohm pull up resistor to IOVDD.", B13 TESTMODE "Factory internal test, do not connect", B14 VCM (out) "Output of the analog input common mode (nominally 1.9V). A 0.1uF capacitor to AGND is recommended.", N5 SYNCOUTN (out) "Synchronization output signal for synchronizing multiple ADCs. Can be disabled via SPI.", N9 SYNCN (in) "Synchronization input. Inactive if logic low. When clocked in a high state initially, this is used for resetting internal clocks and digital logic and starting the SYNCOUT signal. Internal 100ohm termination.", P5 SYNCOUTP (out) "Synchronization output signal for synchronizing multiple ADCs. Can be disabled via SPI.", P9 SYNCP (in) "Synchronization input. Inactive if logic low. When clocked in a high state initially, this is used for resetting internal clocks and digital logic and starting the SYNCOUT signal. Internal 100ohm termination.", P13 CLKINN (in) "Differential input clock", P14 CLKINP (in) "Differential input clock"
part C pins: A8 DVDD (power) "1.8V supply for digital block", A9 DVDD (power) "1.8V supply for digital block", B8 DVDD (power) "1.8V supply for digital block", B9 DVDD (power) "1.8V supply for digital block", B10 IOVDD (power) "1.8V for digital I/Os", C6 DVDDLVDS (power) "1.8V supply for LVDS outputs", C7 DVDDLVDS (power) "1.8V supply for LVDS outputs", C8 DVDD (power) "1.8V supply for digital block", D6 DVDDLVDS (power) "1.8V supply for LVDS outputs", D7 DVDDLVDS (power) "1.8V supply for LVDS outputs", D8 DVDD (power) "1.8V supply for digital block", D10 AVDD18 (power) "1.8V analog supply", D11 AVDD18 (power) "1.8V analog supply", D12 AVDD33 (power) "3.3V analog supply", E11 AVDD18 (power) "1.8V analog supply", E12 AVDD33 (power) "3.3V analog supply", F11 AVDD18 (power) "1.8V analog supply", F12 AVDD33 (power) "3.3V analog supply", G11 AVDD18 (power) "1.8V analog supply", G12 AVDD33 (power) "3.3V analog supply", G14 AVDDC (power) "1.8V supply for clock input", H11 AVDD18 (power) "1.8V analog supply", H12 AVDD33 (power) "3.3V analog supply", H14 AVDDC (power) "1.8V supply for clock input", J11 AVDD18 (power) "1.8V analog supply", J12 AVDD33 (power) "3.3V analog supply", K11 AVDD18 (power) "1.8V analog supply", K12 AVDD33 (power) "3.3V analog supply", L6 DVDDLVDS (power) "1.8V supply for LVDS outputs", L7 DVDDLVDS (power) "1.8V supply for LVDS outputs", L8 DVDD (power) "1.8V supply for digital block", L10 AVDD18 (power) "1.8V analog supply", L11 AVDD18 (power) "1.8V analog supply", L12 AVDD33 (power) "3.3V analog supply", M6 DVDDLVDS (power) "1.8V supply for LVDS outputs", M7 DVDDLVDS (power) "1.8V supply for LVDS outputs", M8 DVDD (power) "1.8V supply for digital block", N8 DVDD (power) "1.8V supply for digital block", N11 AVDD18 (power) "1.8V analog supply", N12 AVDD33 (power) "3.3V analog supply", P8 DVDD (power) "1.8V supply for digital block", P11 AVDD18 (power) "1.8V analog supply", P12 AVDD33 (power) "3.3V analog supply"
part D pins: C9 GND (power) "Ground", C10 GND (power) "Ground", C11 GND (power) "Ground", C12 GND (power) "Ground", C13 GND (power) "Ground", C14 GND (power) "Ground", D9 GND (power) "Ground", D13 GND (power) "Ground", E5 GND (power) "Ground", E6 GND (power) "Ground", E7 GND (power) "Ground", E8 GND (power) "Ground", E9 GND (power) "Ground", E10 GND (power) "Ground", E13 GND (power) "Ground", F5 GND (power) "Ground", F6 GND (power) "Ground", F7 GND (power) "Ground", F8 GND (power) "Ground", F9 GND (power) "Ground", F10 GND (power) "Ground", F13 GND (power) "Ground", F14 GND (power) "Ground", G5 GND (power) "Ground", G6 GND (power) "Ground", G7 GND (power) "Ground", G8 GND (power) "Ground", G9 GND (power) "Ground", G10 GND (power) "Ground", G13 GND (power) "Ground", H5 GND (power) "Ground", H6 GND (power) "Ground", H7 GND (power) "Ground", H8 GND (power) "Ground", H9 GND (power) "Ground", H10 GND (power) "Ground", H13 GND (power) "Ground", J5 GND (power) "Ground", J6 GND (power) "Ground", J7 GND (power) "Ground", J8 GND (power) "Ground", J9 GND (power) "Ground", J10 GND (power) "Ground", J13 GND (power) "Ground", J14 GND (power) "Ground", K5 GND (power) "Ground", K6 GND (power) "Ground", K7 GND (power) "Ground", K8 GND (power) "Ground", K9 GND (power) "Ground", K10 GND (power) "Ground", K13 GND (power) "Ground", L9 GND (power) "Ground", L13 GND (power) "Ground", M9 GND (power) "Ground", M10 GND (power) "Ground", M11 GND (power) "Ground", M12 GND (power) "Ground", M13 GND (power) "Ground", M14 GND (power) "Ground", N13 GND (power) "Ground", N14 GND (power) "Ground"
part E pins: A1 NC "Don’t connect to pin", A2 NC "Don’t connect to pin", A3 NC "Don’t connect to pin", A4 NC "Don’t connect to pin", A5 NC "Don’t connect to pin", A6 NC "Don’t connect to pin", A7 NC "Don’t connect to pin", B1 NC "Don’t connect to pin", B2 NC "Don’t connect to pin", B3 NC "Don’t connect to pin", B4 NC "Don’t connect to pin", B5 NC "Don’t connect to pin", B6 NC "Don’t connect to pin", B7 NC "Don’t connect to pin", C1 NC "Don’t connect to pin", C2 NC "Don’t connect to pin", C3 NC "Don’t connect to pin", C4 NC "Don’t connect to pin", C5 NC "Don’t connect to pin", D1 NC "Don’t connect to pin", D2 NC "Don’t connect to pin", D3 NC "Don’t connect to pin", D4 NC "Don’t connect to pin", D5 NC "Don’t connect to pin", D14 NC "Don’t connect to pin", E1 NC "Don’t connect to pin", E2 NC "Don’t connect to pin", E3 NC "Don’t connect to pin", E4 NC "Don’t connect to pin", E14 NC "Don’t connect to pin", F1 NC "Don’t connect to pin", F2 NC "Don’t connect to pin", F3 NC "Don’t connect to pin", F4 NC "Don’t connect to pin", G1 NC "Don’t connect to pin", G2 NC "Don’t connect to pin", G3 NC "Don’t connect to pin", G4 NC "Don’t connect to pin", N4 NC "Don’t connect to pin", N6 NC "Don’t connect to pin", N7 NC "Don’t connect to pin", N10 NC "Don’t connect to pin", P4 NC "Don’t connect to pin", P6 NC "Don’t connect to pin", P7 NC "Don’t connect to pin", P10 NC "Don’t connect to pin"